# Altium footprint library TSALdrive.PcbLib: 9 footprints
Each footprint in its own frame and in the unit in brackets; x right, y up, seen from the top. Pads: shape width x height; smd on the part's side, far side on the other; paste and mask are expansions set on the pad; w line width, h text height; cw(c..) or ccw(c..) is an arc to the next point about the centre after c.
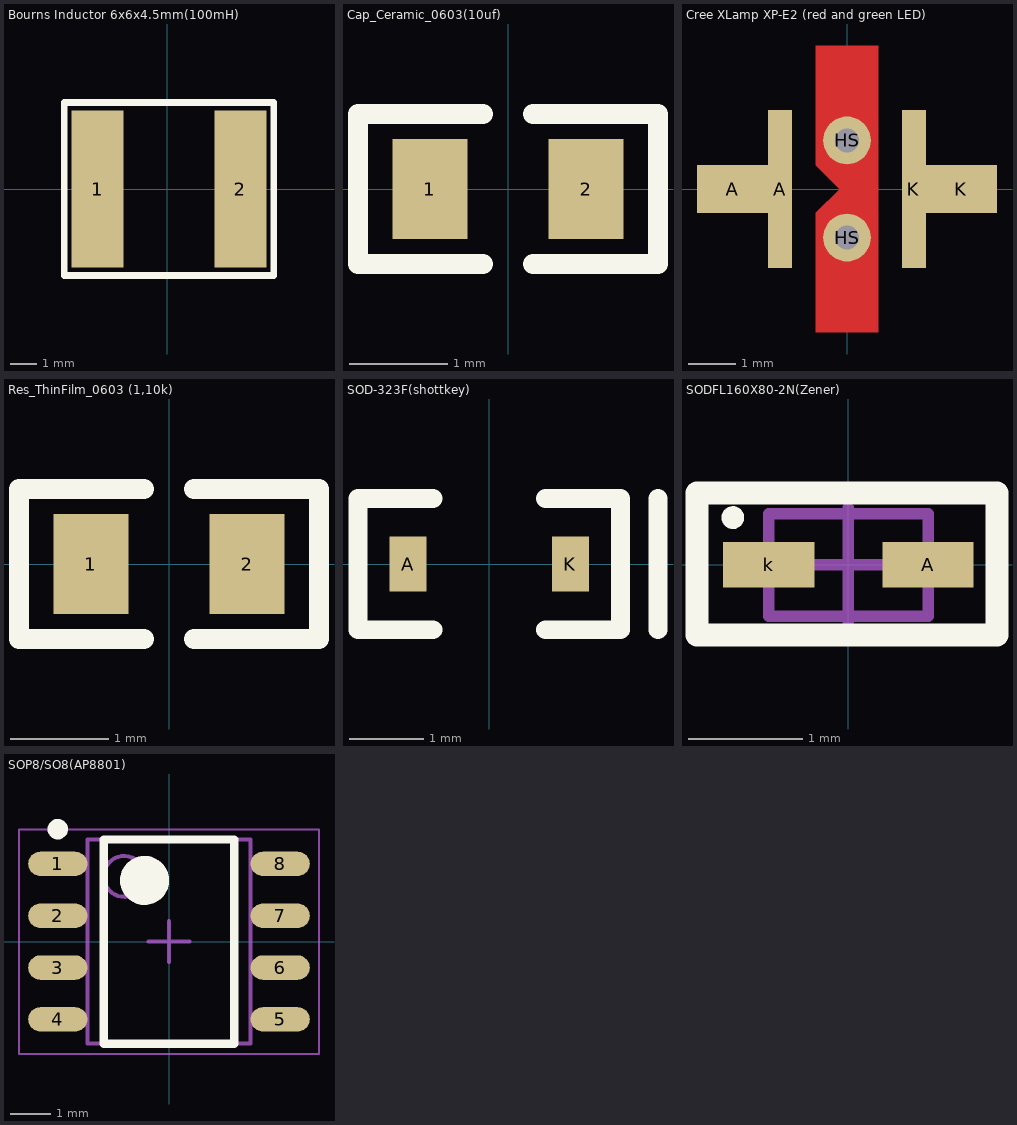
[diagram p0: the footprints below, top view; thin cyan lines are the x and y axes]

## Bourns Inductor 6x6x4.5mm(100mH) [mm]
pads (2):
  rect 2x6 smd: 1(-2.667,0) 2(2.794,0)
Top Overlay:
  lines w0.254: -3.937,-3.302 4.064,-3.302 4.064,3.302 -3.937,3.302 -3.937,-3.302
3D body "srn6045.stp": height 4.5, standoff 0, extent -3,-3 3,3

## Cap_Ceramic_0603(10uf) [mil]
pads (2):
  rect 30x40 smd: 1(-31.24,0) 2(31.24,0)
Top Overlay:
  lines w8: -10,-30 -60,-30 -60,30 -10,30 ; 10,-30 60,-30 60,30 10,30
3D body "ceramic_cap_0603.stp": height 33.46, standoff 0, extent -31.49,-15.74 31.51,15.75

## Cree XLamp XP-E2 (red and green LED) [mm]
pads (6):
  rect 1.5x1 smd: A(-2.388,0) K(2.388,0)
  rect 0.5x3.3 smd: A(-1.4,0) K(1.4,0)
  round 1 hole 0.5: HS(0,-1.016) HS(0,1.016)
Top Layer:
  region: -0.65,3 0.65,3 0.65,-3 -0.65,-3 -0.65,-0.5 -0.15,0 -0.65,0.5
3D body "XLamp_XPG2_3D_STEP.stp": height 2.31, standoff 0.06, extent -1.725,-1.725 1.725,1.725

## PCBComponent_1 [mm]

## PCBComponent_1 - duplicate [mm]

## Res_ThinFilm_0603 (1,10k) [mil]
pads (2):
  rect 30x40 smd: 1(-31.24,0) 2(31.24,0)
Top Overlay:
  lines w8: -10,-30 -60,-30 -60,30 -10,30 ; 10,-30 60,-30 60,30 10,30
3D body "rsmd-0603_l1-6_w0-8_h0-45.stp": height 17.72, standoff 0, extent -31.49,-15.74 31.5,15.75

## SOD-323F(shottkey) [mm]
height 1.1
pads (2):
  rect 0.5x0.75 smd: A(-1.1,0) K(1.1,0)
Top Overlay:
  lines w0.254: -0.762,-0.889 -1.778,-0.889 -1.778,0.889 -0.762,0.889 ; 0.762,-0.889 1.778,-0.889 1.778,0.889 0.762,0.889 ; 2.286,-0.889 2.286,0.889
3D body "SOT323F.step": height 0.68, standoff -0.03, extent -1.25,-0.635 1.25,0.615

## SODFL160X80-2N(Zener) [mm] "SODFL, 2-Leads, Body 0.80x1.60mm, IPC Medium Density"
height 0.8
pads (2):
  rect 0.8x0.4 smd: A(0.7,0) k(-0.7,0)
Top Overlay:
  circle w0.1: c-1.015,0.415 r0.05
  lines w0.2: -1.33,-0.615 1.305,-0.615 1.305,-0.315 1.305,0.285 1.305,0.63 -1.33,0.63 -1.33,-0.615
Mechanical 13:
  lines w0.1: -0.7,-0.45 -0.7,0.45 0.7,0.45 0.7,-0.45 -0.7,-0.45
Mechanical 15:
  lines w0.1: -0.5,0 0.5,0 ; 0,-0.5 0,0.5
3D body "SODFL160X80-2N.step": height 0.8, standoff 0, extent -0.8,-0.45 0.8,0.45

## SOP8/SO8(AP8801) [mm] "SOP, 8-Leads, Body 4.90x3.90mm, Pitch 1.27mm, IPC Medium Density"
height 1.75
pads (8):
  oval 1.45x0.6 smd: 1(-2.725,1.905) 2(-2.725,0.635) 3(-2.725,-0.635) 4(-2.725,-1.905) 5(2.725,-1.905) 6(2.725,-0.635) 7(2.725,0.635) 8(2.725,1.905)
Top Overlay:
  circle w0.25: c-2.725,2.755 r0.125
  circle w0.6: c-0.6,1.5 r0.3
  lines w0.2: -1.6,-2.5 -1.6,2.5 1.6,2.5 1.6,-2.5 -1.6,-2.5
Mechanical 13:
  circle w0.1: c-1.1,1.6 r0.5
  lines w0.1: -2,-2.5 -2,2.5 2,2.5 2,-2.5 -2,-2.5
Mechanical 15:
  lines w0.05: -3.675,-2.75 -3.675,2.75 3.675,2.75 3.675,-2.75 -3.675,-2.75
  lines w0.1: -0.5,0 0.5,0 ; 0,-0.5 0,0.5
3D body "SOP127P600X175-8N.step": height 1.75, standoff 0, extent -3,-2.5 3,2.5